# EAGLE library part BQ2412* (library lm5007)
SINGLE-CHIP SWITCHMODE, LI-ION AND LI-POLYMER CHARGE-MANAGEMENT WITH ENHANCED EMI PERFORMANCE(bqSWITCHER TM) Source: http://focus.ti.com/lit/ds/symlink/bq24120.pdf
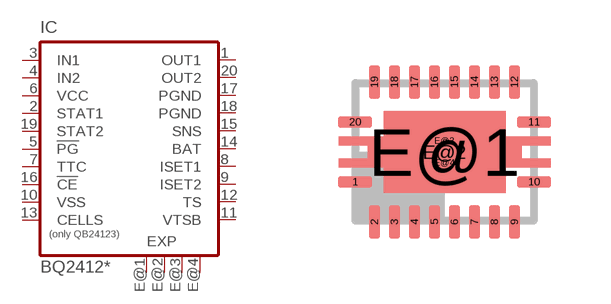
[diagram p32: symbol with the pads of R-PQFP-N20; footprint R-PQFP-N20]

Designator prefix IC

## BQ24120 (MPN: BQ24120RHLTG4; OC_FARNELL: 1230453; OC_NEWARK: 12M9386), BQ24123 (MPN: BQ24123RHLT; OC_FARNELL: 1407131; OC_NEWARK: 84K0851)  [R-PQFP-N20]
1  OUT1  pas
2  STAT1  out
3  IN1  in
4  IN2  in
5  !PG  out
6  VCC  in
7  TTC  in
8  ISET1
9  ISET2
10  VSS  in
11  VTSB  out
12  TS  in
13  CELLS  in
14  BAT  in
15  SNS  in
16  !CE  in
17  PGND  pas
18  PGND  pas
19  STAT2  out
20  OUT2  pas
E@1  EXP  pas
E@2  EXP  pas
E@3  EXP  pas
E@4  EXP  pas

## Footprint R-PQFP-N20 (pad centres in mm)
PQFP20 RHL PACKAGE 4.5mm x 3.5mm QFN Source: http://focus.ti.com/lit/ds/symlink/tps75003.pdf
smd 0.85 x 0.28: 1 -2.235,-0.75; 10 2.235,-0.75; 11 2.235,0.75; 20 -2.235,0.75
smd 0.28 x 0.85: 2 -1.75,-1.75; 3 -1.25,-1.75; 4 -0.75,-1.75; 5 -0.25,-1.75; 6 0.25,-1.75; 7 0.75,-1.75; 8 1.25,-1.75; 9 1.75,-1.75; 12 1.75,1.75; 13 1.25,1.75; 14 0.75,1.75; 15 0.25,1.75; 16 -0.25,1.75; 17 -0.75,1.75; 18 -1.25,1.75; 19 -1.75,1.75
smd 3.05 x 2.05: E@1 0,0
smd 3.85 x 0.5: E@2 0,0
smd 5.3 x 0.23: E@3 0,0.275; E@4 0,-0.275